# Altium integrated library ISO7720FDWR.IntLib: 1 symbol
Pins are listed as number, name and electrical type; pins without a type are passive.

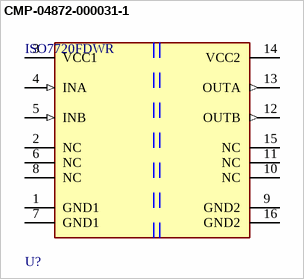
[diagram p0: symbol CMP-04872-000031-1]

## CMP-04872-000031-1
designator U?, comment ISO7720FDWR
DGTL ISO 5000VRMS 2CH GP 16SOIC; Number of Channels: 2; Data Rate: 100Mbps; Channel Type: Unidirectional; Propagation Delay: 16ns; Pulse Width Distortion (PWD): 4.9ns; Isolated Power: No; Max Operating Temperature: 125°C; RoHS Compliant: Yes; Case/Package: SOIC; Packaging: Cut Tape; Mount: Surface Mount; Type: General Purpose; Number of Pins: 16; Min Operating Temperature: -55°C
footprint FP-DW0016B-IPC_B
footprint FP-DW0016B-MFG
footprint FP-DW0016B-IPC_A
footprint FP-DW0016B-IPC_C
pins: 1 GND1 (power), 2 NC, 3 VCC1 (power), 4 INA (in), 5 INB (in), 6 NC, 7 GND1 (power), 8 NC, 9 GND2 (power), 10 NC, 11 NC, 12 OUTB (out), 13 OUTA (out), 14 VCC2 (power), 15 NC, 16 GND2 (power)